# EAGLE library part MB85RC* (library bschulz)
MB85RCx - FRAM I2C Memory Characteristics: Vin: 1.8 ~ 3.6V IQ: 15μA typ ISleep: 4μA Capacity: 64kb, 512kb, 1Mb Operating Temperature: -40°C to 85°C Digikey: 865-1269-1-ND <https://www.digikey.com/en/products/detail/fujitsu-semiconductor/MB85RC512TPNF-G-JNERE1/5456435>
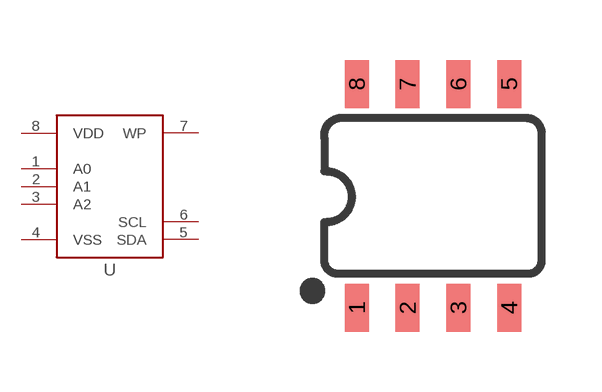
[diagram p163: symbol with the pads of SO08; footprint SO08]

Designator prefix U

## MB85RC (DIGIKEY: 865-1269-1-ND; DISP: MB85RC512; MF: Fujitsu; MPN: MB85RC512TPNF-G-JNERE1)  [SO08]
1  A0  in
2  A1  in
3  A2  in
4  VSS  pwr
5  SDA
6  SCL  in
7  WP  in
8  VDD  pwr

## Footprint SO08 (pad centres in mm)
SOIC, 0.15 inch width
smd 0.6 x 1.2: 1 -1.905,-2.8; 2 -0.635,-2.8; 3 0.635,-2.8; 4 1.905,-2.8; 5 1.905,2.8; 6 0.635,2.8; 7 -0.635,2.8; 8 -1.905,2.8